# Altium footprint library C091 connector.PcbLib: 2 footprints
Each footprint in its own frame and in the unit in brackets; x right, y up, seen from the top. Pads: shape width x height; smd on the part's side, far side on the other; paste and mask are expansions set on the pad; w line width, h text height; cw(c..) or ccw(c..) is an arc to the next point about the centre after c.
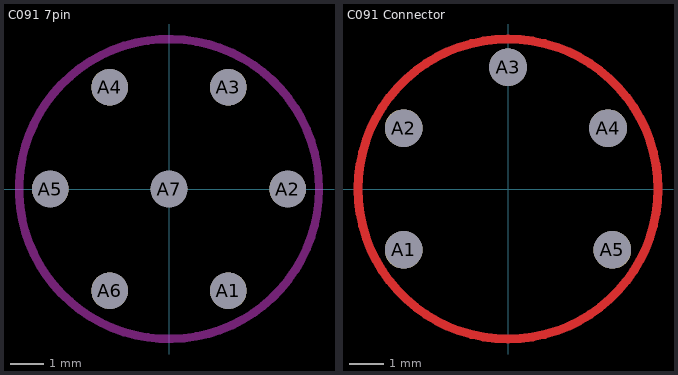
[diagram p0: the footprints below, top view; thin cyan lines are the x and y axes]

## C091 7pin [mm]
pads (7):
  round 1.1 hole 1.1: A1(1.778,-3.048) A2(3.556,0) A3(1.778,3.048) A4(-1.778,3.048) A5(-3.556,0) A6(-1.778,-3.048) A7(0,0)
Top Layer keep-out:
  circle w0.254: c0,0 r4.494

## C091 Connector [mm]
pads (5):
  round 1.1 hole 1.1: A1(-3.048,-1.778) A2(-3.048,1.778) A3(0,3.556) A4(2.921,1.778) A5(3.048,-1.778)
Top Layer:
  circle w0.254: c0,0 r4.379